# Altium footprint library CONN2x5_050_LOCK.PcbLib: 1 footprints
Each footprint in its own frame and in the unit in brackets; x right, y up, seen from the top. Pads: shape width x height; smd on the part's side, far side on the other; paste and mask are expansions set on the pad; w line width, h text height; cw(c..) or ccw(c..) is an arc to the next point about the centre after c.
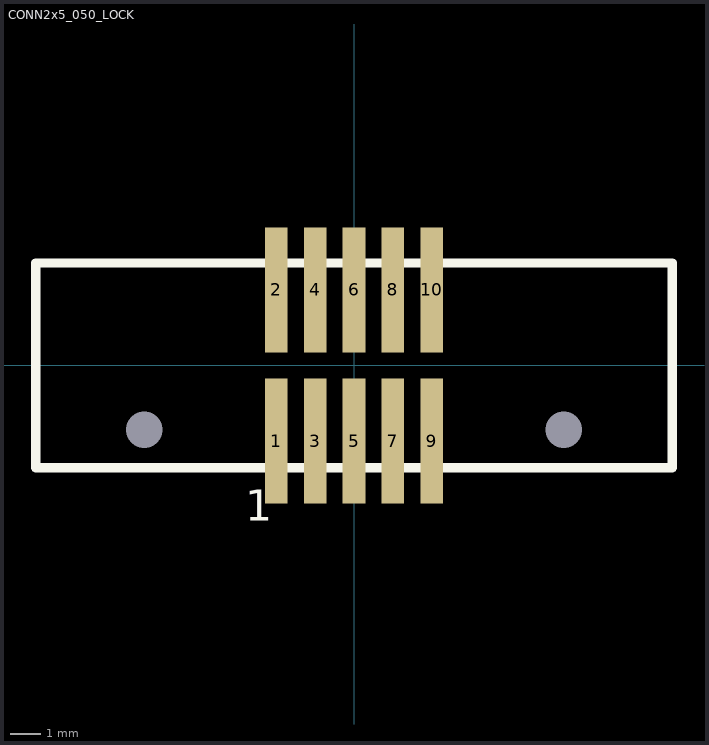
[diagram p0: the footprint, top view; thin cyan lines are the x and y axes]

## CONN2x5_050_LOCK [mil]
height 325
pads (12):
  round 1 hole 47: 0(-270,-83) 0(270,-83)
  rect 29x161 smd: 1(-100,-97.5) 2(-100,97.5) 3(-50,-97.5) 4(-50,97.5) 5(0,-97.5) 6(0,97.5) 7(50,-97.5) 8(50,97.5) 9(100,-97.5) 10(100,97.5)
Top Overlay:
  lines w12: -410,-132 -410,132 410,132 410,-132 -410,-132
  text "1" at -140,-200 h40
3D body: height 455.89, standoff -49.4, extent -409.99,-147.99 410.01,148.01